# EAGLE library part A4983 (library kwoo)
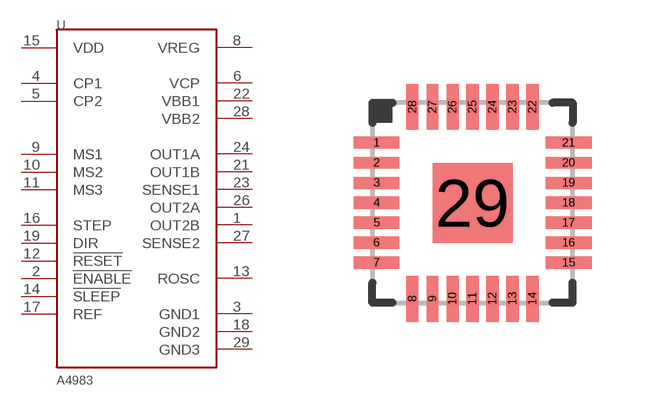
[diagram p17: symbol with the pads of 28-QFN; footprint 28-QFN]

Designator prefix -

## A4983  [28-QFN]
1  OUT2B
2  !ENABLE
3  GND1
4  CP1
5  CP2
6  VCP
8  VREG
9  MS1
10  MS2
11  MS3
12  !RESET
13  ROSC
14  !SLEEP
15  VDD
16  STEP
17  REF
18  GND2
19  DIR
21  OUT1B
22  VBB1
23  SENSE1
24  OUT1A
26  OUT2A
27  SENSE2
28  VBB2
29  GND3

## Footprint 28-QFN (pad centres in mm)
smd 1.15 x 0.3: 1 -2.4,1.5; 2 -2.4,1; 3 -2.4,0.5; 4 -2.4,0; 5 -2.4,-0.5; 6 -2.4,-1; 7 -2.4,-1.5; 15 2.4,-1.5; 16 2.4,-1; 17 2.4,-0.5; 18 2.4,0; 19 2.4,0.5; 20 2.4,1; 21 2.4,1.5
smd 0.3 x 1.15: 8 -1.5,-2.4; 9 -1,-2.4; 10 -0.5,-2.4; 11 0,-2.4; 12 0.5,-2.4; 13 1,-2.4; 14 1.5,-2.4; 22 1.5,2.4; 23 1,2.4; 24 0.5,2.4; 25 0,2.4; 26 -0.5,2.4; 27 -1,2.4; 28 -1.5,2.4
smd 2 x 2: 29 0,0